# EAGLE library part STM32L4Z_144PIN_SMPS (library df4iah_stm32l4)
STM32L4XX LQFP packages with actual and functional symbols.
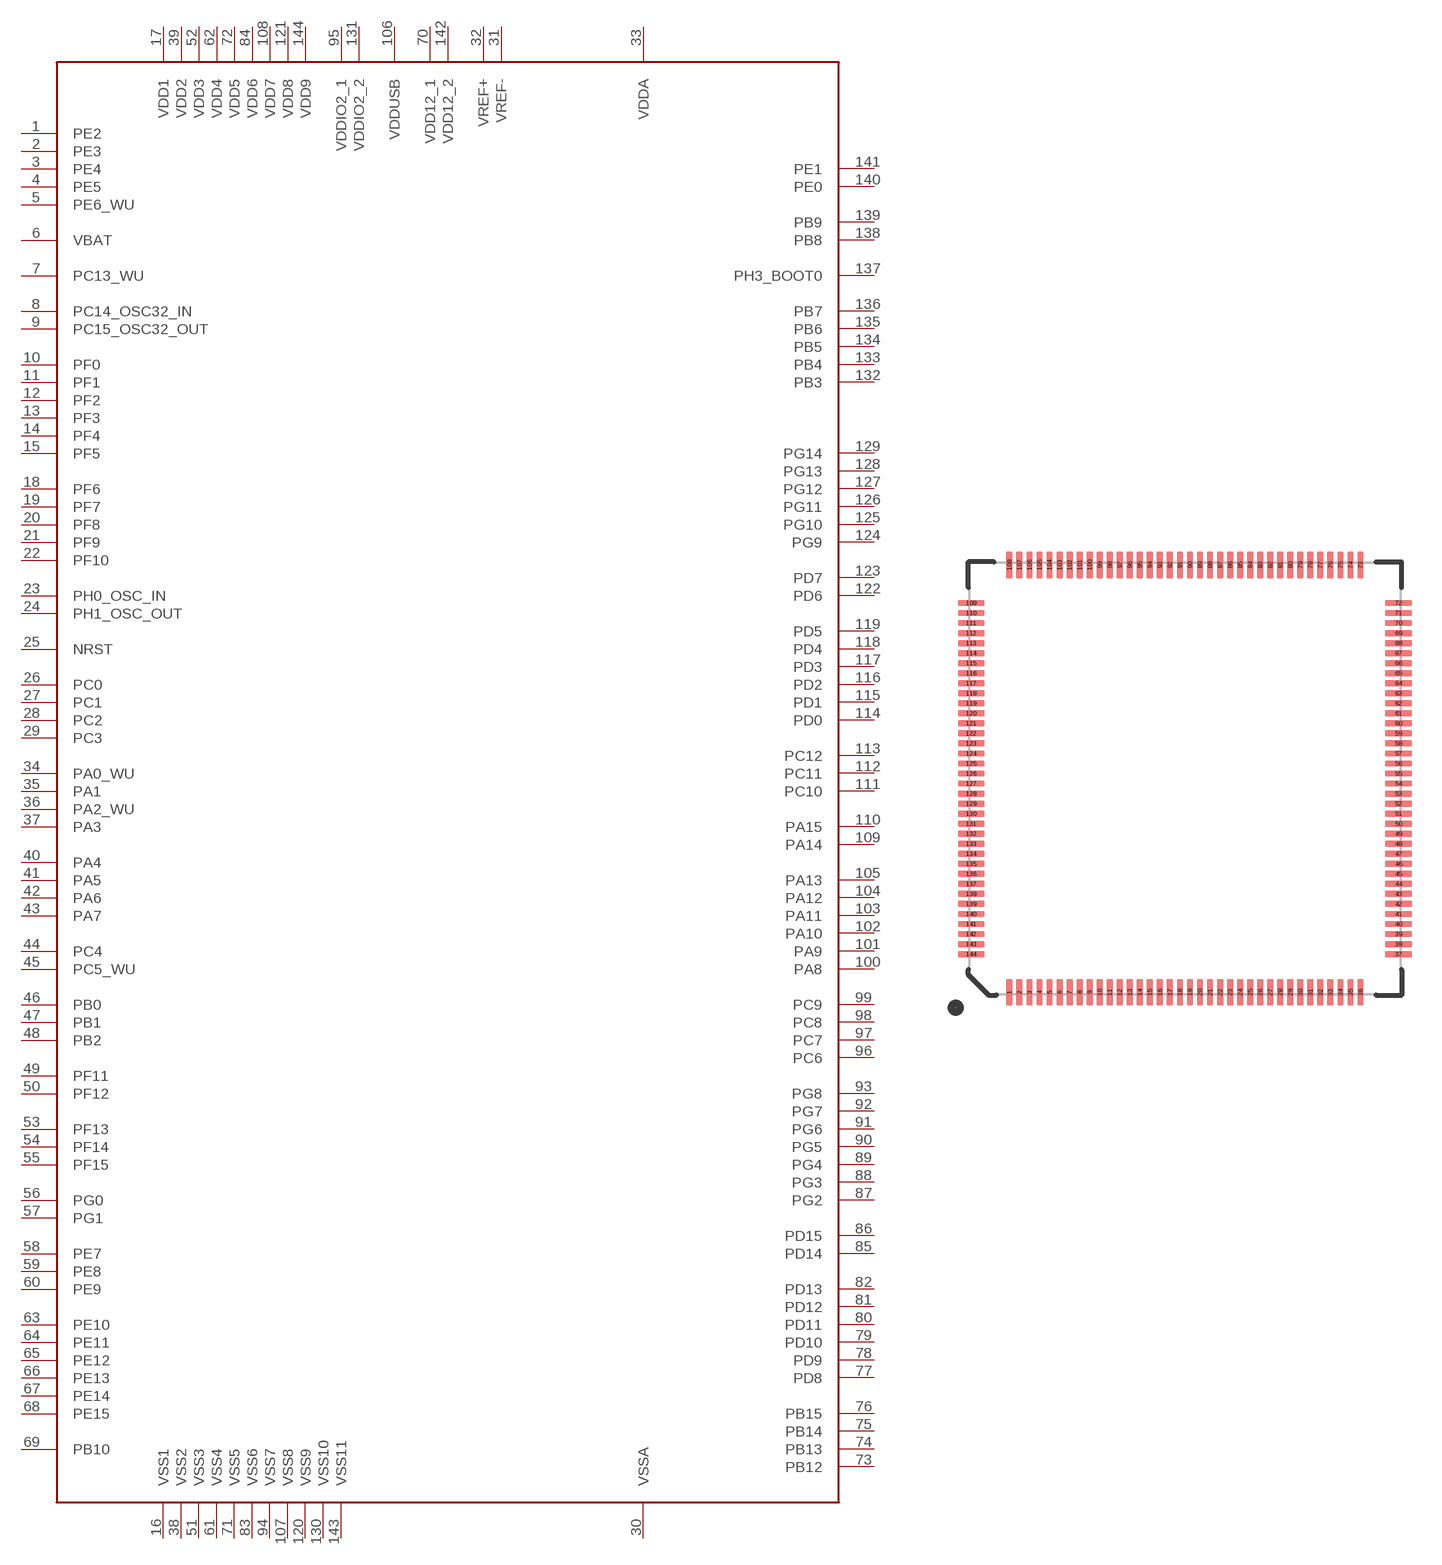
[diagram p1: symbol with the pads of LQFP144; footprint LQFP144]

Designator prefix -

## STM32L4Z_144PIN_SMPS  [LQFP144]
1  PE2
2  PE3
3  PE4
4  PE5
5  PE6_WU
6  VBAT
7  PC13_WU
8  PC14_OSC32_IN
9  PC15_OSC32_OUT
10  PF0
11  PF1
12  PF2
13  PF3
14  PF4
15  PF5
16  VSS1
17  VDD1
18  PF6
19  PF7
20  PF8
21  PF9
22  PF10
23  PH0_OSC_IN
24  PH1_OSC_OUT
25  NRST
26  PC0
27  PC1
28  PC2
29  PC3
30  VSSA
31  VREF-
32  VREF+
33  VDDA
34  PA0_WU
35  PA1
36  PA2_WU
37  PA3
38  VSS2
39  VDD2
40  PA4
41  PA5
42  PA6
43  PA7
44  PC4
45  PC5_WU
46  PB0
47  PB1
48  PB2
49  PF11
50  PF12
51  VSS3
52  VDD3
53  PF13
54  PF14
55  PF15
56  PG0
57  PG1
58  PE7
59  PE8
60  PE9
61  VSS4
62  VDD4
63  PE10
64  PE11
65  PE12
66  PE13
67  PE14
68  PE15
69  PB10
70  VDD12_1
71  VSS5
72  VDD5
73  PB12
74  PB13
75  PB14
76  PB15
77  PD8
78  PD9
79  PD10
80  PD11
81  PD12
82  PD13
83  VSS6
84  VDD6
85  PD14
86  PD15
87  PG2
88  PG3
89  PG4
90  PG5
91  PG6
92  PG7
93  PG8
94  VSS7
95  VDDIO2_1
96  PC6
97  PC7
98  PC8
99  PC9
100  PA8
101  PA9
102  PA10
103  PA11
104  PA12
105  PA13
106  VDDUSB
107  VSS8
108  VDD7
109  PA14
110  PA15
111  PC10
112  PC11
113  PC12
114  PD0
115  PD1
116  PD2
117  PD3
118  PD4
119  PD5
120  VSS9
121  VDD8
122  PD6
123  PD7
124  PG9
125  PG10
126  PG11
127  PG12
128  PG13
129  PG14
130  VSS10
131  VDDIO2_2
132  PB3
133  PB4
134  PB5
135  PB6
136  PB7
137  PH3_BOOT0
138  PB8
139  PB9
140  PE0
141  PE1
142  VDD12_2
143  VSS11
144  VDD9

## Footprint LQFP144 (pad centres in mm)
LQFP144 0.5mm pitch
smd 0.325 x 1.35: 1 -8.75,-10.65; 2 -8.25,-10.65; 3 -7.75,-10.65; 4 -7.25,-10.65; 5 -6.75,-10.65; 6 -6.25,-10.65; 7 -5.75,-10.65; 8 -5.25,-10.65; 9 -4.75,-10.65; 10 -4.25,-10.65; 11 -3.75,-10.65; 12 -3.25,-10.65; 13 -2.75,-10.65; 14 -2.25,-10.65; 15 -1.75,-10.65; 16 -1.25,-10.65; 17 -0.75,-10.65; 18 -0.25,-10.65; 19 0.25,-10.65; 20 0.75,-10.65; 21 1.25,-10.65; 22 1.75,-10.65; 23 2.25,-10.65; 24 2.75,-10.65; 25 3.25,-10.65; 26 3.75,-10.65; 27 4.25,-10.65; 28 4.75,-10.65; 29 5.25,-10.65; 30 5.75,-10.65; 31 6.25,-10.65; 32 6.75,-10.65; 33 7.25,-10.65; 34 7.75,-10.65; 35 8.25,-10.65; 36 8.75,-10.65; 73 8.75,10.65; 74 8.25,10.65; 75 7.75,10.65; 76 7.25,10.65; 77 6.75,10.65; 78 6.25,10.65; 79 5.75,10.65; 80 5.25,10.65; 81 4.75,10.65; 82 4.25,10.65; 83 3.75,10.65; 84 3.25,10.65; 85 2.75,10.65; 86 2.25,10.65; 87 1.75,10.65; 88 1.25,10.65; 89 0.75,10.65; 90 0.25,10.65; 91 -0.25,10.65; 92 -0.75,10.65; 93 -1.25,10.65; 94 -1.75,10.65; 95 -2.25,10.65; 96 -2.75,10.65; 97 -3.25,10.65; 98 -3.75,10.65; 99 -4.25,10.65; 100 -4.75,10.65; 101 -5.25,10.65; 102 -5.75,10.65; 103 -6.25,10.65; 104 -6.75,10.65; 105 -7.25,10.65; 106 -7.75,10.65; 107 -8.25,10.65; 108 -8.75,10.65
smd 1.35 x 0.325: 37 10.65,-8.75; 38 10.65,-8.25; 39 10.65,-7.75; 40 10.65,-7.25; 41 10.65,-6.75; 42 10.65,-6.25; 43 10.65,-5.75; 44 10.65,-5.25; 45 10.65,-4.75; 46 10.65,-4.25; 47 10.65,-3.75; 48 10.65,-3.25; 49 10.65,-2.75; 50 10.65,-2.25; 51 10.65,-1.75; 52 10.65,-1.25; 53 10.65,-0.75; 54 10.65,-0.25; 55 10.65,0.25; 56 10.65,0.75; 57 10.65,1.25; 58 10.65,1.75; 59 10.65,2.25; 60 10.65,2.75; 61 10.65,3.25; 62 10.65,3.75; 63 10.65,4.25; 64 10.65,4.75; 65 10.65,5.25; 66 10.65,5.75; 67 10.65,6.25; 68 10.65,6.75; 69 10.65,7.25; 70 10.65,7.75; 71 10.65,8.25; 72 10.65,8.75; 109 -10.65,8.75; 110 -10.65,8.25; 111 -10.65,7.75; 112 -10.65,7.25; 113 -10.65,6.75; 114 -10.65,6.25; 115 -10.65,5.75; 116 -10.65,5.25; 117 -10.65,4.75; 118 -10.65,4.25; 119 -10.65,3.75; 120 -10.65,3.25; 121 -10.65,2.75; 122 -10.65,2.25; 123 -10.65,1.75; 124 -10.65,1.25; 125 -10.65,0.75; 126 -10.65,0.25; 127 -10.65,-0.25; 128 -10.65,-0.75; 129 -10.65,-1.25; 130 -10.65,-1.75; 131 -10.65,-2.25; 132 -10.65,-2.75; 133 -10.65,-3.25; 134 -10.65,-3.75; 135 -10.65,-4.25; 136 -10.65,-4.75; 137 -10.65,-5.25; 138 -10.65,-5.75; 139 -10.65,-6.25; 140 -10.65,-6.75; 141 -10.65,-7.25; 142 -10.65,-7.75; 143 -10.65,-8.25; 144 -10.65,-8.75